# EAGLE library part VERT_SD_CARD (library TomW)
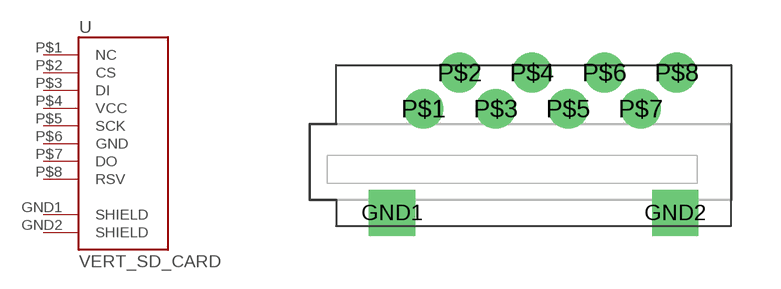
[diagram p11: symbol with the pads of VERT_MICROSD; footprint VERT_MICROSD]

Designator prefix -

## VERT_SD_CARD  [VERT_MICROSD]
GND1  SHIELD
GND2  SHIELD
P$1  NC
P$2  CS
P$3  DI
P$4  VCC
P$5  SCK
P$6  GND
P$7  DO
P$8  RSV

## Footprint VERT_MICROSD (pad centres in mm)
drill 0.9 square: GND1 -4.3,-3.17; GND2 4.3,-3.17
drill 0.7: P$1 -3.35,0; P$2 -2.25,1.1; P$3 -1.15,0; P$4 -0.05,1.1; P$5 1.05,0; P$6 2.15,1.1; P$7 3.25,0; P$8 4.35,1.1